# EAGLE library part WT32I-A-AI6 (library WT32i-A-AI6)
Bluetooth / 802.15.1 Modules Class1 BT 3.0, Audio Module, Int Ant Source: Datasheet <http://www.mouser.com/ds/2/368/Bluegigga Technologies_WT32i_Datasheet-558681.pdf>
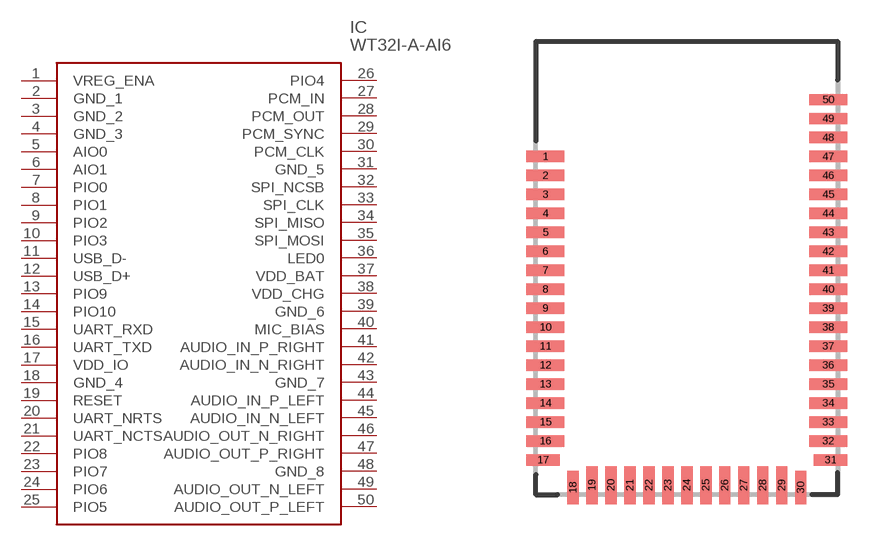
[diagram p0: symbol with the pads of WT32I-A-AI6; footprint WT32I-A-AI6]

Designator prefix IC

## WT32I-A-AI6 (Description: Bluetooth / 802.15.1 Modules Class1 BT 3.0, Audio Module, Int Ant; Height: mm; Manufacturer_Name: Silicon Labs; Manufacturer_Part_Number: WT32i-A-AI6; Mouser_Part_Number: 603-WT32I-A-AI6; Mouser_Price-Stock: https://www.mouser.com/Search/Refine.aspx?Keyword=603-WT32I-A-AI6)  [WT32I-A-AI6]
1  VREG_ENA
2  GND_1
3  GND_2
4  GND_3
5  AIO0
6  AIO1
7  PIO0
8  PIO1
9  PIO2
10  PIO3
11  USB_D-
12  USB_D+
13  PIO9
14  PIO10
15  UART_RXD
16  UART_TXD
17  VDD_IO
18  GND_4
19  RESET
20  UART_NRTS
21  UART_NCTS
22  PIO8
23  PIO7
24  PIO6
25  PIO5
26  PIO4
27  PCM_IN
28  PCM_OUT
29  PCM_SYNC
30  PCM_CLK
31  GND_5
32  SPI_NCSB
33  SPI_CLK
34  SPI_MISO
35  SPI_MOSI
36  LED0
37  VDD_BAT
38  VDD_CHG
39  GND_6
40  MIC_BIAS
41  AUDIO_IN_P_RIGHT
42  AUDIO_IN_N_RIGHT
43  GND_7
44  AUDIO_IN_P_LEFT
45  AUDIO_IN_N_LEFT
46  AUDIO_OUT_N_RIGHT
47  AUDIO_OUT_P_RIGHT
48  GND_8
49  AUDIO_OUT_N_LEFT
50  AUDIO_OUT_P_LEFT

## Footprint WT32I-A-AI6 (pad centres in mm)
WT32I-A-AI6
smd 2 x 0.6: 1 -7.45,17.33; 2 -7.45,16.33; 3 -7.45,15.33; 4 -7.45,14.33; 5 -7.45,13.33; 6 -7.45,12.33; 7 -7.45,11.33; 8 -7.45,10.33; 9 -7.45,9.33; 10 -7.45,8.33; 11 -7.45,7.33; 12 -7.45,6.33; 13 -7.45,5.33; 14 -7.45,4.33; 15 -7.45,3.33; 16 -7.45,2.33; 32 7.45,2.33; 33 7.45,3.33; 34 7.45,4.33; 35 7.45,5.33; 36 7.45,6.33; 37 7.45,7.33; 38 7.45,8.33; 39 7.45,9.33; 40 7.45,10.33; 41 7.45,11.33; 42 7.45,12.33; 43 7.45,13.33; 44 7.45,14.33; 45 7.45,15.33; 46 7.45,16.33; 47 7.45,17.33; 48 7.45,18.33; 49 7.45,19.33; 50 7.45,20.33
smd 1.75 x 0.6: 17 -7.575,1.33; 31 7.575,1.33
smd 0.6 x 1.75: 18 -6,-0.125; 30 6,-0.125
smd 0.6 x 2: 19 -5,0; 20 -4,0; 21 -3,0; 22 -2,0; 23 -1,0; 24 0,0; 25 1,0; 26 2,0; 27 3,0; 28 4,0; 29 5,0